# EAGLE library part A3966SLBTR (library charleses_parts_bin)
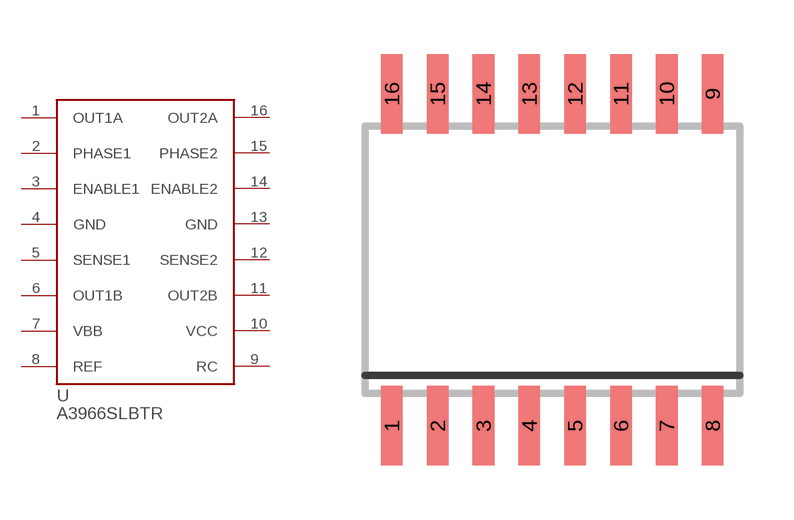
[diagram p7: symbol with the pads of SOIC16W; footprint SOIC16W]

Designator prefix U

## A3966SLBTR  [SOIC16W]
1  OUT1A
2  PHASE1
3  ENABLE1
4  GND  pwr
5  SENSE1
6  OUT1B
7  VBB
8  REF
9  RC
10  VCC
11  OUT2B
12  SENSE2
13  GND  pwr
14  ENABLE2
15  PHASE2
16  OUT2A

## Footprint SOIC16W (pad centres in mm)
smd 0.6 x 2.2: 1 -4.445,-4.6; 2 -3.175,-4.6; 3 -1.905,-4.6; 4 -0.635,-4.6; 5 0.635,-4.6; 6 1.905,-4.6; 7 3.175,-4.6; 8 4.445,-4.6; 9 4.445,4.6; 10 3.175,4.6; 11 1.905,4.6; 12 0.635,4.6; 13 -0.635,4.6; 14 -1.905,4.6; 15 -3.175,4.6; 16 -4.445,4.6